# Altium schematic symbol library Fuse.SchLib: 1 symbol
Pins are listed as number, name and electrical type; pins without a type are passive.

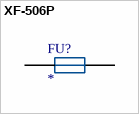
[diagram p0: symbol XF-506P]

## XF-506P
designator FU?
小型汽车插片保险丝座
footprint XF-506P (for-automotivefuse-mini)
pins: 1, 2